# EAGLE library part JUMPER-3X8 (library QuantumOptics)
Jumper 3x8, 3 x 8 on a 0.1 grid
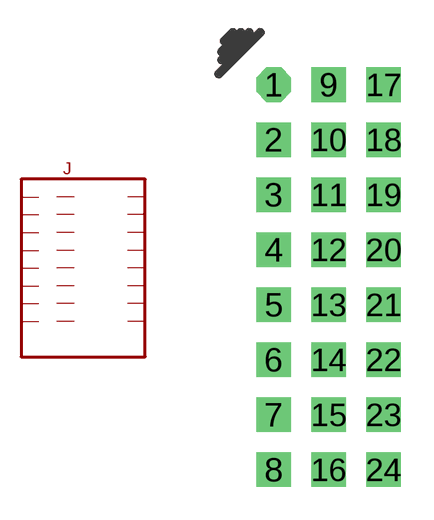
[diagram p17: symbol with the pads of JUMPER-3X8; footprint JUMPER-3X8]

Designator prefix J

## JUMPER-3X8.  [JUMPER-3X8]
1  1
2  2
3  3
4  4
5  5
6  6
7  7
8  8
9  9
10  10
11  11
12  12
13  13
14  14
15  15
16  16
17  17
18  18
19  19
20  20
21  21
22  22
23  23
24  24

## Footprint JUMPER-3X8 (pad centres in mm)
Jumper 24-pin header, 3 rows of 8, vertical SIP on 0.1" grid.
drill 1.067 octagon: 1 0,2.54
drill 1.067 square: 2 0,0; 3 0,-2.54; 4 0,-5.08; 5 0,-7.62; 6 0,-10.16; 7 0,-12.7; 8 0,-15.24; 9 2.54,2.54; 10 2.54,0; 11 2.54,-2.54; 12 2.54,-5.08; 13 2.54,-7.62; 14 2.54,-10.16; 15 2.54,-12.7; 16 2.54,-15.24; 17 5.08,2.54; 18 5.08,0; 19 5.08,-2.54; 20 5.08,-5.08; 21 5.08,-7.62; 22 5.08,-10.16; 23 5.08,-12.7; 24 5.08,-15.24